# Altium schematic symbol library BTS3205N.SchLib: 1 symbol
Pins are listed as number, name and electrical type; pins without a type are passive.

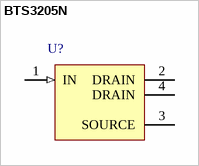
[diagram p0: symbol BTS3205N]

## BTS3205N
designator U?
Smart Low-Side Power Switch, 42 V VDS, 0.6 A ID, -40 to 150 degC, PG-SOT223 (SC-73), Reel, Green; Manufacturer: Infineon; PartNumber: BTS3205N; Channels: 1; Green: TRUE; Group: HITFET; ID(nom): 0.35 A; ID(lim) (min): 0.6 A; Ptot (max): 0.78 mW; RDS (on)(max): 700 mOhm; ton (max): 38 us; toff (max): 45 us; VDS (max): 42 V; DatasheetVersion: Rev. 1.1; PackageVersion: Apr-08; PackageReference: PG-SOT223 (SC-73); PackageDescription: 4-Pin Small Outline Transistor Package, 6.5 x 3.5 mm Body, 2.3 mm Pitch; Supplier 1: Digi-Key; Supplier Part Number 1: BTS3205NINTR-ND; Supplier 2: Digi-Key; Supplier Part Number 2: BTS3205NINCT-ND; Supplier 3: Digi-Key; Supplier Part Number 3: BTS3205NINDKR-ND; Supplier 4: Mouser; Supplier Part Number 4: 726-BTS3205N; Halogen-free: FALSE; Packing: Reel; Mounting Technology: Surface Mount; ComponentLink1Description: Manufacturer URL; ComponentLink1URL: http://www.infineon.com/; ComponentLink2Description: Datasheet; ComponentLink2URL: http://www.infineon.com/dgdl/BTS3205N_DS_11.pdf?folderId=db3a3043163797a6011667aa084c0e01&fileId=db3a30431ed1d7b2011f4ba4f81d5ec6&location=en.Products.Automotive_ICs.Smart_High-_and_Low-Side_Switches.HITFET___TEMPFET__-_Smart_Low-Side_Switches.DATASHEET.BTS3205N_DS_11.pdf; ComponentLink3Description: Package Specification; ComponentLink3URL: http://www.infineon.com/dgdl/SOT223-Package_Overview.pdf?folderId=db3a30431936bc4b0119530470b03c3d&fileId=db3a30431936bc4b0119531d40b93c5c
footprint INF-PG-SOT223_SC-73_N (SOT223, 4-Leads, Body 6.5x3.5mm, Pitch 2.3mm, IPC Medium Density)
footprint INF-PG-SOT223_SC-73_L (SOT223, 4-Leads, Body 6.5x3.5mm, Pitch 2.3mm, IPC High Density)
footprint INF-PG-SOT223_SC-73_M (SOT223, 4-Leads, Body 6.5x3.5mm, Pitch 2.3mm, IPC Low Density)
pins: 1 IN (in), 2 DRAIN (power), 3 SOURCE (power), 4 DRAIN (power)